# EAGLE library part TP4056 (library Geiger)
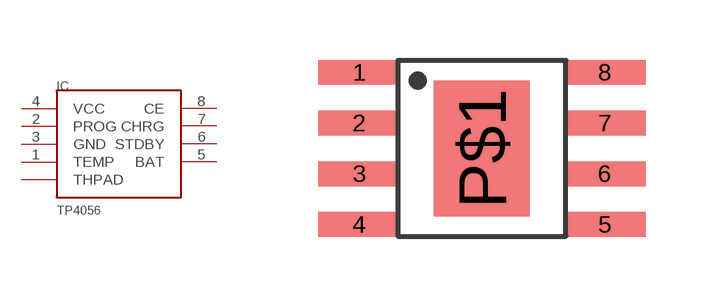
[diagram p0: symbol with the pads of SOP-8; footprint SOP-8]

Designator prefix IC

## TP4056  [SOP-8]
1  TEMP
2  PROG
3  GND
4  VCC
5  BAT
6  STDBY
7  CHRG
8  CE
P$1  THPAD

## Footprint SOP-8 (pad centres in mm)
smd 2.062 x 0.624: 1 -3.067,1.905; 2 -3.067,0.635; 3 -3.067,-0.635; 4 -3.067,-1.905; 5 3.067,-1.905; 6 3.067,-0.635; 7 3.067,0.635; 8 3.067,1.905
smd 2.4 x 3.4: P$1 0,0